# Altium footprint library MF_IC_Power.PCBLIB: 4 footprints
Each footprint in its own frame and in the unit in brackets; x right, y up, seen from the top. Pads: shape width x height; smd on the part's side, far side on the other; paste and mask are expansions set on the pad; w line width, h text height; cw(c..) or ccw(c..) is an arc to the next point about the centre after c.
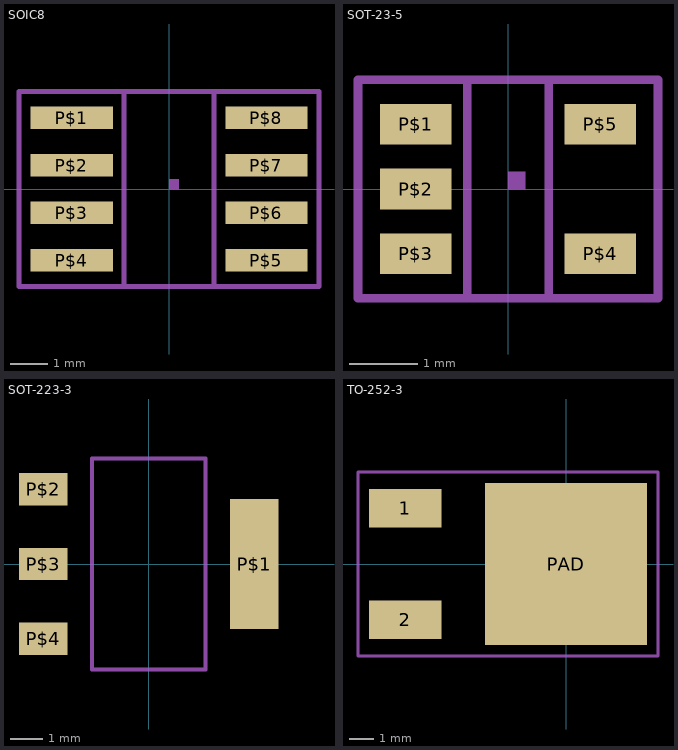
[diagram p0: the footprints below, top view; thin cyan lines are the x and y axes]

## SOIC8 [mm]
pads (8):
  rect 2.2x0.6 smd: P$1(-2.6,1.905) P$2(-2.6,0.635) P$3(-2.6,-0.635) P$4(-2.6,-1.905) P$5(2.6,-1.905) P$6(2.6,-0.635) P$7(2.6,0.635) P$8(2.6,1.905)
Mechanical 22:
  region: 0,0 0.254,0 0.254,0.254 0,0.254
  region: 0,0 0.254,0 0.254,0.254 0,0.254
  lines w0.127: -1.2,-2.6 1.2,-2.6 ; -1.2,-2.6 -4,-2.6 -4,2.6 -1.2,2.6 ; -1.2,-2.6 -1.2,2.6 ; -1.2,2.6 1.2,2.6 ; 1.2,-2.6 4,-2.6 4,2.6 1.2,2.6 ; 1.2,-2.6 1.2,2.6

## SOT-23-5 [mm]
pads (5):
  rect 1.05x0.6 smd: P$1(-1.35,0.95) P$2(-1.35,0) P$3(-1.35,-0.95) P$4(1.35,-0.95) P$5(1.35,0.95)
Mechanical 22:
  region: 0,0 0.254,0 0.254,0.254 0,0.254
  region: 0,0 0.254,0 0.254,0.254 0,0.254
  lines w0.127: -0.6,-1.6 0.6,-1.6 ; -0.6,-1.6 -2.2,-1.6 -2.2,1.6 -0.6,1.6 ; -0.6,-1.6 -0.6,1.6 ; -0.6,1.6 0.6,1.6 ; 0.6,-1.6 2.2,-1.6 2.2,1.6 0.6,1.6 ; 0.6,-1.6 0.6,1.6

## SOT-223-3 [mm]
pads (4):
  rect 1.5x4 smd: P$1(3.25,0)
  rect 1.5x1 smd: P$2(-3.25,2.3) P$3(-3.25,0) P$4(-3.25,-2.3)
Mechanical 22:
  lines w0.127: -1.75,-3.25 1.75,-3.25 1.75,3.25 -1.75,3.25 -1.75,-3.25

## TO-252-3 [mm]
pads (3):
  rect 3x1.6 smd: 1(-6.65,2.3) 2(-6.65,-2.3)
  rect 6.7x6.7 smd: PAD(0,0)
Mechanical 22:
  lines w0.127: -8.6,-3.8 3.8,-3.8 3.8,3.8 -8.6,3.8 -8.6,-3.8